# Altium footprint library IDC254P.PcbLib: 16 footprints
Each footprint in its own frame and in the unit in brackets; x right, y up, seen from the top. Pads: shape width x height; smd on the part's side, far side on the other; paste and mask are expansions set on the pad; w line width, h text height; cw(c..) or ccw(c..) is an arc to the next point about the centre after c.
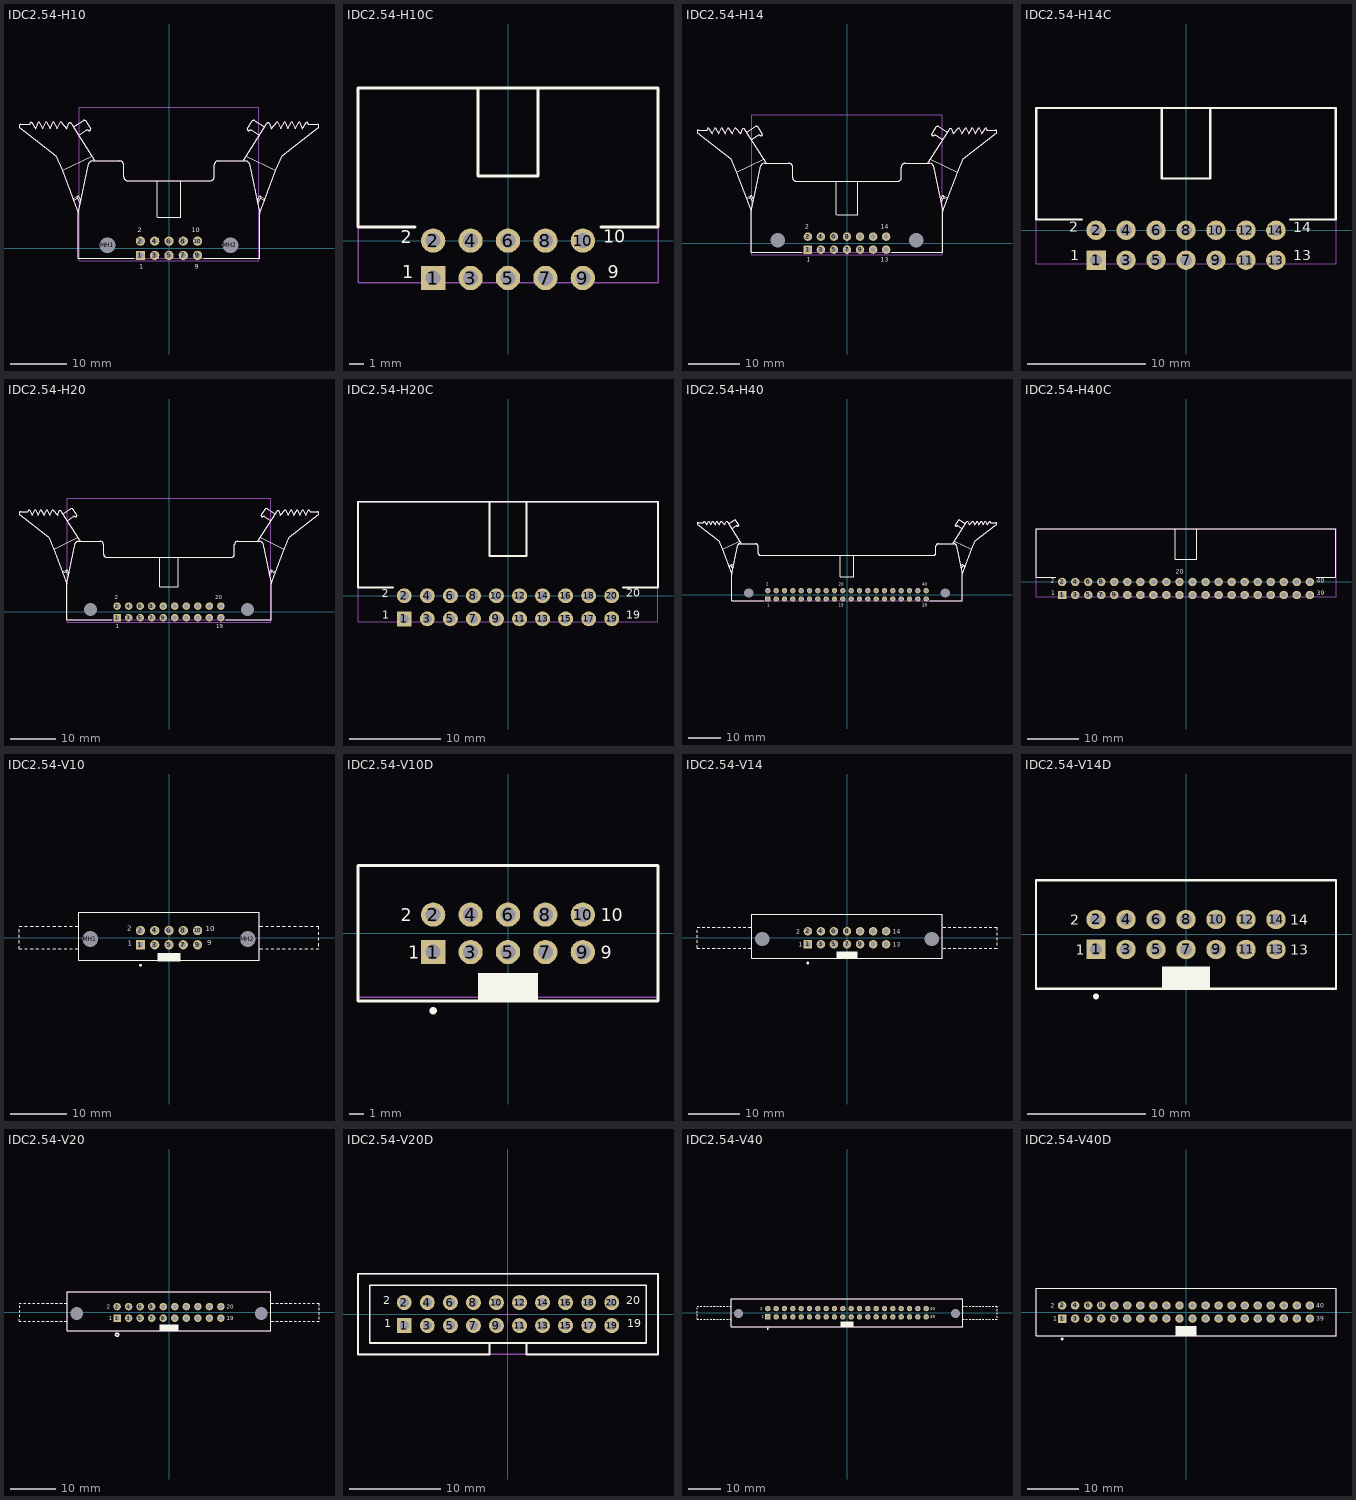
[diagram p0: the footprints below, top view; thin cyan lines are the x and y axes]

## IDC2.54-H10 [mm] "Connector; IDC, Thru-Hole; 10 Position; Right Angle; Pitch 2.54 mm; Body 32.30 x 8.5 x 25.75 mm (LxHxW), Locking levers"
height 8.5
pads (12):
  rect 1.65x1.65 hole 1: 1(-5.08,-1.27)
  round 1.65 hole 1: 2(-5.08,1.27) 3(-2.54,-1.27) 4(-2.54,1.27) 5(0,-1.27) 6(0,1.27) 7(2.54,-1.27) 8(2.54,1.27) 9(5.08,-1.27) 10(5.08,1.27)
  round 2.5 hole 2.8 unplated: MH1(-10.92,0.53) MH2(10.92,0.53)
Top Overlay:
  lines w0.2: -17.12,8.851 -16.155,9.3 ; -16.991,8.563 -16.32,8.877 ; -16.985,21.6 -15.262,22.725 cw(c-15.113,22.387) -14.847,22.644 -13.922,21.245 cw(c-14.242,21.225) -14.294,20.91 ccw(c-14.562,20.595) -14.697,20.985 ; -16.063,20.103 -14.7,20.991 ; -15.793,7.925 -16.32,8.877 ; -15.693,8.378 -16.155,9.3 ; -13.765,16.383 -18.989,13.84 ; -13.6,15.53 ccw(c-13.615,14.83) -14.26,15.102 -16.15,6.23 ; -13.54,15.53 -8.765,15.53 cw(c-8.765,14.83) -8.065,14.83 -8.065,12.73 ccw(c-7.365,12.73) -7.365,12.03 7.365,12.03 ccw(c7.365,12.73) 8.065,12.73 8.065,14.83 cw(c8.765,14.83) 8.765,15.53 13.54,15.53 ; -13.194,15.53 -17.328,22.058 ccw(c-17.651,21.956) -17.793,22.265 -18.2,21.301 -19.23,22.501 -19.86,21.301 -20.61,22.501 -21.16,21.301 -21.86,22.501 -22.48,21.301 -23.13,22.501 -23.73,21.301 -24.475,22.501 ; -6.305,-1.77 -16.15,-1.77 -16.15,6.23 ; -2.05,5.53 -2.05,12.03 ; -2.04,5.53 2.06,5.53 ; 2.05,5.534 2.05,12.03 ; 6.19,-1.77 16.15,-1.77 16.15,6.23 ; 13.194,15.53 17.328,22.058 cw(c17.651,21.956) 17.793,22.265 18.2,21.301 19.23,22.501 19.86,21.301 20.61,22.501 21.16,21.301 21.86,22.501 22.48,21.301 23.13,22.501 23.73,21.301 24.475,22.501 ; 13.6,15.53 cw(c13.615,14.83) 14.26,15.102 16.15,6.23 ; 13.765,16.383 18.989,13.84 ; 14.697,20.985 ccw(c14.562,20.595) 14.294,20.91 cw(c14.242,21.225) 13.922,21.245 14.847,22.644 cw(c15.113,22.387) 15.262,22.725 16.985,21.6 ; 14.7,20.991 16.063,20.103 ; 15.693,8.378 16.155,9.3 ; 15.793,7.925 16.32,8.877 ; 16.991,8.563 16.32,8.877 ; 17.12,8.851 16.155,9.3 ; -24.73,22.03 -24.475,22.501 ; -24.73,22.03 -24.475,22.501 ; -24.73,22.03 -26.341,22.03 ccw(c-26.341,21.69) -26.65,21.549 -20.115,16.455 -18.989,13.84 ; -18.989,13.84 -16.15,6.23 ; -16.32,8.877 -16.155,9.3 ; 16.15,6.23 18.989,13.84 ; 16.155,9.3 16.32,8.877 ; 18.989,13.84 20.115,16.455 26.65,21.549 ccw(c26.341,21.69) 26.341,22.03 24.73,22.03 ; 24.475,22.501 24.73,22.03 ; 24.475,22.501 24.73,22.03
  text "2" at -5.58,2.47 h1.5
  text "1" at -5.33,-3.97 h1.5
  text "10" at 4.08,2.47 h1.5
  text "9" at 4.58,-3.97 h1.5
Mechanical 13:
  lines w0.1: -16.985,21.6 -15.262,22.725 cw(c-15.113,22.387) -14.847,22.644 -13.922,21.245 cw(c-14.242,21.225) -14.294,20.91 ccw(c-14.562,20.595) -14.697,20.985 ; -16.063,20.103 -14.7,20.991 ; -13.6,15.53 ccw(c-13.615,14.83) -14.26,15.102 -16.15,6.23 ; -13.54,15.53 -8.765,15.53 cw(c-8.765,14.83) -8.065,14.83 -8.065,12.73 ccw(c-7.365,12.73) -7.365,12.03 7.365,12.03 ccw(c7.365,12.73) 8.065,12.73 8.065,14.83 cw(c8.765,14.83) 8.765,15.53 13.54,15.53 ; -13.194,15.53 -17.328,22.058 ccw(c-17.651,21.956) -17.793,22.265 -18.2,21.301 -19.23,22.501 -19.86,21.301 -20.61,22.501 -21.16,21.301 -21.86,22.501 -22.48,21.301 -23.13,22.501 -23.73,21.301 -24.475,22.501 ; 13.194,15.53 17.328,22.058 cw(c17.651,21.956) 17.793,22.265 18.2,21.301 19.23,22.501 19.86,21.301 20.61,22.501 21.16,21.301 21.86,22.501 22.48,21.301 23.13,22.501 23.73,21.301 24.475,22.501 ; 13.6,15.53 cw(c13.615,14.83) 14.26,15.102 16.15,6.23 ; 14.697,20.985 ccw(c14.562,20.595) 14.294,20.91 cw(c14.242,21.225) 13.922,21.245 14.847,22.644 cw(c15.113,22.387) 15.262,22.725 16.985,21.6 ; 14.7,20.991 16.063,20.103 ; -24.73,22.03 -24.475,22.501 ; -24.73,22.03 -26.341,22.03 ccw(c-26.341,21.69) -26.65,21.549 -20.115,16.455 -18.989,13.84 -16.15,6.23 ; -24.73,22.03 -24.475,22.501 ; -16.15,6.23 -16.15,-1.77 16.15,-1.77 16.15,6.23 ; 16.15,6.23 18.989,13.84 20.115,16.455 26.65,21.549 ccw(c26.341,21.69) 26.341,22.03 24.73,22.03 ; 24.475,22.501 24.73,22.03 ; 24.475,22.501 24.73,22.03 ; -16.002,-2.24 16.002,-2.24 16.002,25.056 -16.002,25.056 -16.002,-2.24
3D body: height 8.55, standoff -3.92, extent -16.002,-2.24 16.002,25.056

## IDC2.54-H10C [mm] "Connector; IDC, Low Profile Male Header, Thru-Hole; 10 Position; Right Angle; Pitch 2.54 mm; Body 20.32 x 8.9 x 9.2 mm (LxWxH)"
height 9.2
pads (10):
  rect 1.65x1.65 hole 1: 1(-5.08,-2.54)
  round 1.65 hole 1: 2(-5.08,0) 3(-2.54,-2.54) 4(-2.54,0) 5(0,-2.54) 6(0,0) 7(2.54,-2.54) 8(2.54,0) 9(5.08,-2.54) 10(5.08,0)
Top Overlay:
  lines w0.2: -6.305,0.91 -10.175,0.91 -10.175,10.36 10.175,10.36 10.175,0.91 6.305,0.91 ; -2.05,10.36 -2.05,4.39 2.05,4.39 2.05,10.36
  text "2" at -7.29,-0.483 h1.5
  text "1" at -7.188,-2.86 h1.5
  text "10" at 6.452,-0.457 h1.5
  text "9" at 6.756,-2.86 h1.5
Mechanical 13:
  lines w0.1: -10.175,10.36 -10.175,-2.86 10.175,-2.86 10.175,10.36 ; -10.16,10.36 10.16,10.36
3D body: height 8.93, standoff -2.98, extent -10.175,-2.86 10.175,10.36

## IDC2.54-H14 [mm] "Connector; IDC, Thru-Hole; 14 Position; Right Angle; Pitch 2.54 mm; Body 37.40 x 8.5 x 25.75 mm (LxHxW), Locking levers"
height 8.5
pads (16):
  rect 1.65x1.65 hole 1: 1(-7.62,-1.27)
  round 1.65 hole 1: 2(-7.62,1.27) 3(-5.08,-1.27) 4(-5.08,1.27) 5(-2.54,-1.27) 6(-2.54,1.27) 7(0,-1.27) 8(0,1.27) 9(2.54,-1.27) 10(2.54,1.27) 11(5.08,-1.27) 12(5.08,1.27) 13(7.62,-1.27) 14(7.62,1.27)
  round 2.5 hole 2.8 unplated: MH1(-13.46,0.53) MH2(13.46,0.53)
Top Overlay:
  lines w0.2: -19.67,8.851 -18.705,9.3 ; -19.541,8.563 -18.87,8.877 ; -19.535,21.6 -17.812,22.725 cw(c-17.663,22.387) -17.397,22.644 -16.472,21.245 cw(c-16.792,21.225) -16.844,20.91 ccw(c-17.112,20.595) -17.247,20.985 ; -18.613,20.103 -17.25,20.991 ; -18.343,7.925 -18.87,8.877 ; -18.243,8.378 -18.705,9.3 ; -16.315,16.383 -21.539,13.84 ; -15.744,15.53 -19.878,22.058 ccw(c-20.201,21.956) -20.343,22.265 -20.75,21.301 -21.78,22.501 -22.41,21.301 -23.16,22.501 -23.71,21.301 -24.41,22.501 -25.03,21.301 -25.68,22.501 -26.28,21.301 -27.025,22.501 ; -8.845,-1.77 -18.7,-1.77 -18.7,6.23 ; -2.05,5.53 -2.05,12.03 ; -2.04,5.53 2.06,5.53 ; 2.05,5.534 2.05,12.03 ; 8.73,-1.77 18.7,-1.77 18.7,6.23 ; 15.744,15.53 19.878,22.058 cw(c20.201,21.956) 20.343,22.265 20.75,21.301 21.78,22.501 22.41,21.301 23.16,22.501 23.71,21.301 24.41,22.501 25.03,21.301 25.68,22.501 26.28,21.301 27.025,22.501 ; 16.315,16.383 21.539,13.84 ; 17.247,20.985 ccw(c17.112,20.595) 16.844,20.91 cw(c16.792,21.225) 16.472,21.245 17.397,22.644 cw(c17.663,22.387) 17.812,22.725 19.535,21.6 ; 17.25,20.991 18.613,20.103 ; 18.243,8.378 18.705,9.3 ; 18.343,7.925 18.87,8.877 ; 19.541,8.563 18.87,8.877 ; 19.67,8.851 18.705,9.3 ; -27.28,22.03 -27.025,22.501 ; -27.28,22.03 -27.025,22.501 ; -27.28,22.03 -28.891,22.03 ccw(c-28.891,21.69) -29.2,21.549 -22.665,16.455 -21.539,13.84 ; -21.539,13.84 -18.7,6.23 ; -18.87,8.877 -18.705,9.3 ; -18.7,6.23 -16.81,15.102 cw(c-16.165,14.83) -16.15,15.53 -11.305,15.53 cw(c-11.305,14.83) -10.605,14.83 -10.605,12.73 ccw(c-9.905,12.73) -9.905,12.03 9.905,12.03 ccw(c9.905,12.73) 10.605,12.73 10.605,14.83 cw(c11.305,14.83) 11.305,15.53 16.15,15.53 cw(c16.165,14.83) 16.81,15.102 18.7,6.23 ; 18.7,6.23 21.539,13.84 ; 18.705,9.3 18.87,8.877 ; 21.539,13.84 22.665,16.455 29.2,21.549 ccw(c28.891,21.69) 28.891,22.03 27.28,22.03 ; 27.025,22.501 27.28,22.03 ; 27.025,22.501 27.28,22.03
  text "13" at 6.62,-3.97 h1.5
  text "14" at 6.62,2.47 h1.5
  text "1" at -7.87,-3.97 h1.5
  text "2" at -8.12,2.47 h1.5
Mechanical 13:
  lines w0.1: -19.535,21.6 -17.812,22.725 cw(c-17.663,22.387) -17.397,22.644 -16.472,21.245 cw(c-16.792,21.225) -16.844,20.91 ccw(c-17.112,20.595) -17.247,20.985 ; -18.613,20.103 -17.25,20.991 ; -15.744,15.53 -19.878,22.058 ccw(c-20.201,21.956) -20.343,22.265 -20.75,21.301 -21.78,22.501 -22.41,21.301 -23.16,22.501 -23.71,21.301 -24.41,22.501 -25.03,21.301 -25.68,22.501 -26.28,21.301 -27.025,22.501 ; 15.744,15.53 19.878,22.058 cw(c20.201,21.956) 20.343,22.265 20.75,21.301 21.78,22.501 22.41,21.301 23.16,22.501 23.71,21.301 24.41,22.501 25.03,21.301 25.68,22.501 26.28,21.301 27.025,22.501 ; 17.247,20.985 ccw(c17.112,20.595) 16.844,20.91 cw(c16.792,21.225) 16.472,21.245 17.397,22.644 cw(c17.663,22.387) 17.812,22.725 19.535,21.6 ; 17.25,20.991 18.613,20.103 ; -27.28,22.03 -27.025,22.501 ; -27.28,22.03 -27.025,22.501 ; -27.28,22.03 -28.891,22.03 ccw(c-28.891,21.69) -29.2,21.549 -22.665,16.455 -21.539,13.84 -18.7,6.23 ; -18.7,6.23 -18.7,-1.77 18.7,-1.77 18.7,6.23 ; -18.7,6.23 -16.81,15.102 cw(c-16.165,14.83) -16.15,15.53 -11.305,15.53 cw(c-11.305,14.83) -10.605,14.83 -10.605,12.73 ccw(c-9.905,12.73) -9.905,12.03 9.905,12.03 ccw(c9.905,12.73) 10.605,12.73 10.605,14.83 cw(c11.305,14.83) 11.305,15.53 16.15,15.53 cw(c16.165,14.83) 16.81,15.102 18.7,6.23 ; 18.7,6.23 21.539,13.84 22.665,16.455 29.2,21.549 ccw(c28.891,21.69) 28.891,22.03 27.28,22.03 ; 27.025,22.501 27.28,22.03 ; 27.025,22.501 27.28,22.03
  lines w0.2: -18.542,-2.24 18.542,-2.24 18.542,25.058 -18.542,25.058 -18.542,-2.24
3D body: height 8.55, standoff -2.78, extent -18.542,-2.24 18.542,25.058

## IDC2.54-H14C [mm] "Connector; IDC, Low Profile Male Header, Thru-Hole; 14 Position; Right Angle; Pitch 2.54 mm; Body 25.40 x 8.9 x 9.2 mm (LxWxH)"
height 9.2
pads (14):
  rect 1.65x1.65 hole 1: 1(-7.62,-2.54)
  round 1.65 hole 1: 2(-7.62,0) 3(-5.08,-2.54) 4(-5.08,0) 5(-2.54,-2.54) 6(-2.54,0) 7(0,-2.54) 8(0,0) 9(2.54,-2.54) 10(2.54,0) 11(5.08,-2.54) 12(5.08,0) 13(7.62,-2.54) 14(7.62,0)
Top Overlay:
  lines w0.2: -8.845,0.91 -12.7,0.91 -12.7,10.36 12.7,10.36 12.7,0.91 8.845,0.91 ; -2.05,10.36 -2.05,4.39 2.05,4.39 2.05,10.36
  text "13" at 9.093,-2.86 h1.5
  text "14" at 9.093,-0.483 h1.5
  text "1" at -9.804,-2.86 h1.5
  text "2" at -9.881,-0.432 h1.5
Mechanical 13:
  lines w0.1: -12.715,-2.86 -12.715,10.36 12.715,10.36 12.715,-2.86 -12.715,-2.86
3D body: height 8.93, standoff -2.98, extent -12.715,-2.86 12.715,10.36

## IDC2.54-H20 [mm] "Connector; IDC, Thru-Hole; 20 Position; Right Angle; Pitch 2.54 mm; Body 45.00 x 8.5 x 25.75 mm (LxHxW), Locking levers"
height 8.5
pads (22):
  rect 1.65x1.65 hole 1: 1(-11.43,-1.27)
  round 1.65 hole 1: 2(-11.43,1.27) 3(-8.89,-1.27) 4(-8.89,1.27) 5(-6.35,-1.27) 6(-6.35,1.27) 7(-3.81,-1.27) 8(-3.81,1.27) 9(-1.27,-1.27) 10(-1.27,1.27) 11(1.27,-1.27) 12(1.27,1.27) 13(3.81,-1.27) 14(3.81,1.27) 15(6.35,-1.27) 16(6.35,1.27) 17(8.89,-1.27) 18(8.89,1.27) 19(11.43,-1.27) 20(11.43,1.27)
  round 2.5 hole 2.8 unplated: MH1(-17.27,0.53) MH2(17.27,0.53)
Top Overlay:
  lines w0.2: -23.47,8.851 -22.505,9.3 ; -23.341,8.563 -22.67,8.877 ; -23.335,21.6 -21.612,22.725 cw(c-21.463,22.387) -21.197,22.644 -20.272,21.245 cw(c-20.592,21.225) -20.644,20.91 ccw(c-20.912,20.595) -21.047,20.985 ; -22.413,20.103 -21.05,20.991 ; -22.143,7.925 -22.67,8.877 ; -22.043,8.378 -22.505,9.3 ; -20.61,15.102 -22.5,6.23 ; -20.61,15.102 cw(c-19.965,14.83) -19.95,15.53 ; -20.115,16.383 -25.339,13.84 ; -19.94,15.53 -15.115,15.53 ; -19.544,15.53 -23.678,22.058 ccw(c-24.001,21.956) -24.143,22.265 -24.55,21.301 -25.58,22.501 -26.21,21.301 -26.96,22.501 -27.51,21.301 -28.21,22.501 -28.83,21.301 -29.48,22.501 -30.08,21.301 -30.825,22.501 ; -15.115,15.53 cw(c-15.115,14.83) -14.415,14.83 -14.415,12.73 ccw(c-13.715,12.73) -13.715,12.03 13.715,12.03 ccw(c13.715,12.73) 14.415,12.73 14.415,14.83 cw(c15.115,14.83) 15.115,15.53 19.94,15.53 ; -12.655,-1.77 -22.5,-1.77 -22.5,6.23 ; -2.05,5.53 -2.05,12.03 ; -2.04,5.53 2.06,5.53 ; 2.05,5.534 2.05,12.03 ; 12.54,-1.77 22.5,-1.77 22.5,6.23 ; 19.544,15.53 23.678,22.058 cw(c24.001,21.956) 24.143,22.265 24.55,21.301 25.58,22.501 26.21,21.301 26.96,22.501 27.51,21.301 28.21,22.501 28.83,21.301 29.48,22.501 30.08,21.301 30.825,22.501 ; 19.95,15.53 cw(c19.965,14.83) 20.61,15.102 22.5,6.23 ; 20.115,16.383 25.339,13.84 ; 21.047,20.985 ccw(c20.912,20.595) 20.644,20.91 cw(c20.592,21.225) 20.272,21.245 21.197,22.644 cw(c21.463,22.387) 21.612,22.725 23.335,21.6 ; 21.05,20.991 22.413,20.103 ; 22.043,8.378 22.505,9.3 ; 22.143,7.925 22.67,8.877 ; 23.341,8.563 22.67,8.877 ; 23.47,8.851 22.505,9.3 ; -31.08,22.03 -32.691,22.03 ccw(c-32.691,21.69) -33,21.549 -26.465,16.455 -25.339,13.84 ; -31.08,22.03 -30.825,22.501 ; -31.08,22.03 -30.825,22.501 ; -25.339,13.84 -22.5,6.23 ; -22.67,8.877 -22.505,9.3 ; 22.5,6.23 25.339,13.84 ; 22.505,9.3 22.67,8.877 ; 25.339,13.84 26.465,16.455 33,21.549 ccw(c32.691,21.69) 32.691,22.03 31.08,22.03 ; 30.825,22.501 31.08,22.03 ; 30.825,22.501 31.08,22.03
  text "2" at -11.93,2.47 h1.5
  text "1" at -11.68,-3.97 h1.5
  text "20" at 10.18,2.47 h1.5
  text "19" at 10.43,-3.97 h1.5
Mechanical 13:
  lines w0.1: -23.335,21.6 -21.612,22.725 cw(c-21.463,22.387) -21.197,22.644 -20.272,21.245 cw(c-20.592,21.225) -20.644,20.91 ccw(c-20.912,20.595) -21.047,20.985 ; -22.413,20.103 -21.05,20.991 ; -20.61,15.102 -22.5,6.23 ; -20.61,15.102 cw(c-19.965,14.83) -19.95,15.53 ; -19.94,15.53 -15.115,15.53 ; -19.544,15.53 -23.678,22.058 ccw(c-24.001,21.956) -24.143,22.265 -24.55,21.301 -25.58,22.501 -26.21,21.301 -26.96,22.501 -27.51,21.301 -28.21,22.501 -28.83,21.301 -29.48,22.501 -30.08,21.301 -30.825,22.501 ; -15.115,15.53 cw(c-15.115,14.83) -14.415,14.83 -14.415,12.73 ccw(c-13.715,12.73) -13.715,12.03 13.715,12.03 ccw(c13.715,12.73) 14.415,12.73 14.415,14.83 cw(c15.115,14.83) 15.115,15.53 19.94,15.53 ; 19.544,15.53 23.678,22.058 cw(c24.001,21.956) 24.143,22.265 24.55,21.301 25.58,22.501 26.21,21.301 26.96,22.501 27.51,21.301 28.21,22.501 28.83,21.301 29.48,22.501 30.08,21.301 30.825,22.501 ; 19.95,15.53 cw(c19.965,14.83) 20.61,15.102 22.5,6.23 ; 21.047,20.985 ccw(c20.912,20.595) 20.644,20.91 cw(c20.592,21.225) 20.272,21.245 21.197,22.644 cw(c21.463,22.387) 21.612,22.725 23.335,21.6 ; 21.05,20.991 22.413,20.103 ; -31.08,22.03 -30.825,22.501 ; -31.08,22.03 -32.691,22.03 ccw(c-32.691,21.69) -33,21.549 -26.465,16.455 -25.339,13.84 -22.5,6.23 ; -31.08,22.03 -30.825,22.501 ; -22.5,6.23 -22.5,-1.77 22.5,-1.77 22.5,6.23 ; 22.5,6.23 25.339,13.84 26.465,16.455 33,21.549 ccw(c32.691,21.69) 32.691,22.03 31.08,22.03 ; 30.825,22.501 31.08,22.03 ; 30.825,22.501 31.08,22.03
  lines w0.2: -22.352,-2.24 22.352,-2.24 22.352,25.056 -22.352,25.056 -22.352,-2.24
3D body: height 8.55, standoff -3.92, extent -22.352,-2.24 22.352,25.056

## IDC2.54-H20C [mm] "Connector; IDC, Low Profile Male Header, Thru-Hole; 20 Position; Right Angle; Pitch 2.54 mm; Body 33.02 x 8.9 x 9.2 mm (LxWxH)"
height 9.2
pads (20):
  rect 1.65x1.65 hole 1: 1(-11.43,-2.54)
  round 1.65 hole 1: 2(-11.43,0) 3(-8.89,-2.54) 4(-8.89,0) 5(-6.35,-2.54) 6(-6.35,0) 7(-3.81,-2.54) 8(-3.81,0) 9(-1.27,-2.54) 10(-1.27,0) 11(1.27,-2.54) 12(1.27,0) 13(3.81,-2.54) 14(3.81,0) 15(6.35,-2.54) 16(6.35,0) 17(8.89,-2.54) 18(8.89,0) 19(11.43,-2.54) 20(11.43,0)
Top Overlay:
  lines w0.2: -12.655,0.91 -16.51,0.91 -16.51,10.36 16.51,10.36 16.51,0.91 12.655,0.91 ; -2.05,10.36 -2.05,4.39 2.05,4.39 2.05,10.36
  text "19" at 13.03,-2.86 h1.5
  text "20" at 13.03,-0.457 h1.5
  text "1" at -13.843,-2.86 h1.5
  text "2" at -13.919,-0.483 h1.5
Mechanical 13:
  lines w0.1: -16.525,-2.86 16.525,-2.86 16.525,10.36 -16.525,10.36 -16.525,-2.86
3D body: height 8.93, standoff -2.98, extent -16.525,-2.86 16.525,10.36

## IDC2.54-H40 [mm] "Connector; IDC, Thru-Hole; 40 Position; Right Angle; Pitch 2.54 mm; Body 70.40 x 8.5 x 25.75 mm (LxHxW), Locking levers"
height 8.5
pads (42):
  rect 1.65x1.65 hole 1: 1(-24.13,-1.27)
  round 1.65 hole 1: 2(-24.13,1.27) 3(-21.59,-1.27) 4(-21.59,1.27) 5(-19.05,-1.27) 6(-19.05,1.27) 7(-16.51,-1.27) 8(-16.51,1.27) 9(-13.97,-1.27) 10(-13.97,1.27) 11(-11.43,-1.27) 12(-11.43,1.27) 13(-8.89,-1.27) 14(-8.89,1.27) 15(-6.35,-1.27) 16(-6.35,1.27) 17(-3.81,-1.27) 18(-3.81,1.27) 19(-1.27,-1.27) 20(-1.27,1.27) 21(1.27,-1.27) 22(1.27,1.27) 23(3.81,-1.27) 24(3.81,1.27) 25(6.35,-1.27) 26(6.35,1.27) 27(8.89,-1.27) 28(8.89,1.27) 29(11.43,-1.27) 30(11.43,1.27) 31(13.97,-1.27) 32(13.97,1.27) 33(16.51,-1.27) 34(16.51,1.27) 35(19.05,-1.27) 36(19.05,1.27) 37(21.59,-1.27) 38(21.59,1.27) 39(24.13,-1.27) 40(24.13,1.27)
  round 2.5 hole 2.8 unplated: MH1(-29.97,0.53) MH2(29.97,0.53)
Top Overlay:
  lines w0.2: -36.17,8.851 -35.205,9.3 ; -36.041,8.563 -35.37,8.877 ; -36.035,21.6 -34.312,22.725 cw(c-34.163,22.387) -33.897,22.644 -32.972,21.245 cw(c-33.292,21.225) -33.344,20.91 ccw(c-33.612,20.595) -33.747,20.985 ; -35.113,20.103 -33.75,20.991 ; -34.843,7.925 -35.37,8.877 ; -34.743,8.378 -35.205,9.3 ; -33.37,15.102 cw(c-32.725,14.83) -32.71,15.53 ; -32.815,16.383 -38.039,13.84 ; -32.65,15.53 ccw(c-32.665,14.83) -33.31,15.102 -35.2,6.23 ; -32.244,15.53 -36.378,22.058 ccw(c-36.701,21.956) -36.843,22.265 -37.25,21.301 -38.28,22.501 -38.91,21.301 -39.66,22.501 -40.21,21.301 -40.91,22.501 -41.53,21.301 -42.18,22.501 -42.78,21.301 -43.525,22.501 ; -25.355,-1.77 -35.2,-1.77 -35.2,6.23 ; -2.05,5.53 -2.05,12.03 ; -2.04,5.53 2.06,5.53 ; 2.05,5.534 2.05,12.03 ; 25.24,-1.77 35.2,-1.77 35.2,6.23 ; 32.244,15.53 36.378,22.058 cw(c36.701,21.956) 36.843,22.265 37.25,21.301 38.28,22.501 38.91,21.301 39.66,22.501 40.21,21.301 40.91,22.501 41.53,21.301 42.18,22.501 42.78,21.301 43.525,22.501 ; 32.65,15.53 cw(c32.665,14.83) 33.31,15.102 35.2,6.23 ; 32.66,15.53 27.8,15.53 ccw(c27.8,14.83) 27.1,14.83 27.1,12.73 cw(c26.4,12.73) 26.4,12.03 -26.4,12.03 cw(c-26.4,12.73) -27.1,12.73 -27.1,14.83 ccw(c-27.8,14.83) -27.8,15.53 ; 32.815,16.383 38.039,13.84 ; 33.747,20.985 ccw(c33.612,20.595) 33.344,20.91 cw(c33.292,21.225) 32.972,21.245 33.897,22.644 cw(c34.163,22.387) 34.312,22.725 36.035,21.6 ; 33.75,20.991 35.113,20.103 ; 34.743,8.378 35.205,9.3 ; 34.843,7.925 35.37,8.877 ; 36.041,8.563 35.37,8.877 ; 36.17,8.851 35.205,9.3 ; -43.78,22.03 -43.525,22.501 ; -43.78,22.03 -43.525,22.501 ; -43.78,22.03 -45.391,22.03 ccw(c-45.391,21.69) -45.7,21.549 -39.165,16.455 -38.039,13.84 ; -38.039,13.84 -35.2,6.23 ; -35.37,8.877 -35.205,9.3 ; -27.8,15.53 -32.66,15.53 -27.8,15.53 ; 35.2,6.23 38.039,13.84 ; 35.205,9.3 35.37,8.877 ; 38.039,13.84 39.165,16.455 45.7,21.549 ccw(c45.391,21.69) 45.391,22.03 43.78,22.03 ; 43.525,22.501 43.78,22.03 ; 43.525,22.501 43.78,22.03
  text "39" at 22.88,-3.97 h1.5
  text "40" at 22.88,2.47 h1.5
  text "1" at -24.38,-3.97 h1.5
  text "2" at -24.63,2.47 h1.5
  text "20" at -2.52,2.47 h1.5
  text "19" at -2.52,-3.97 h1.5
Mechanical 13:
  lines w0.1: -36.035,21.6 -34.312,22.725 cw(c-34.163,22.387) -33.897,22.644 -32.972,21.245 cw(c-33.292,21.225) -33.344,20.91 ccw(c-33.612,20.595) -33.747,20.985 ; -35.113,20.103 -33.75,20.991 ; -33.37,15.102 cw(c-32.725,14.83) -32.71,15.53 ; -32.65,15.53 ccw(c-32.665,14.83) -33.31,15.102 -35.2,6.23 ; -32.244,15.53 -36.378,22.058 ccw(c-36.701,21.956) -36.843,22.265 -37.25,21.301 -38.28,22.501 -38.91,21.301 -39.66,22.501 -40.21,21.301 -40.91,22.501 -41.53,21.301 -42.18,22.501 -42.78,21.301 -43.525,22.501 ; 32.244,15.53 36.378,22.058 cw(c36.701,21.956) 36.843,22.265 37.25,21.301 38.28,22.501 38.91,21.301 39.66,22.501 40.21,21.301 40.91,22.501 41.53,21.301 42.18,22.501 42.78,21.301 43.525,22.501 ; 32.65,15.53 cw(c32.665,14.83) 33.31,15.102 35.2,6.23 ; 32.66,15.53 27.8,15.53 ccw(c27.8,14.83) 27.1,14.83 27.1,12.73 cw(c26.4,12.73) 26.4,12.03 -26.4,12.03 cw(c-26.4,12.73) -27.1,12.73 -27.1,14.83 ccw(c-27.8,14.83) -27.8,15.53 ; 33.747,20.985 ccw(c33.612,20.595) 33.344,20.91 cw(c33.292,21.225) 32.972,21.245 33.897,22.644 cw(c34.163,22.387) 34.312,22.725 36.035,21.6 ; 33.75,20.991 35.113,20.103 ; -43.78,22.03 -43.525,22.501 ; -43.78,22.03 -43.525,22.501 ; -43.78,22.03 -45.391,22.03 ccw(c-45.391,21.69) -45.7,21.549 -39.165,16.455 -38.039,13.84 -35.2,6.23 ; -35.2,6.23 -35.2,-1.77 35.2,-1.77 35.2,6.23 ; -27.8,15.53 -32.66,15.53 -27.8,15.53 ; 35.2,6.23 38.039,13.84 39.165,16.455 45.7,21.549 ccw(c45.391,21.69) 45.391,22.03 43.78,22.03 ; 43.525,22.501 43.78,22.03 ; 43.525,22.501 43.78,22.03

## IDC2.54-H40C [mm] "Connector; IDC, Low Profile Male Header, Thru-Hole; 40 Position; Right Angle; Pitch 2.54 mm; Body 58.42 x 8.9 x 9.2 mm (LxWxH)"
height 9.2
pads (40):
  rect 1.65x1.65 hole 1: 1(-24.13,-2.54)
  round 1.65 hole 1: 2(-24.13,0) 3(-21.59,-2.54) 4(-21.59,0) 5(-19.05,-2.54) 6(-19.05,0) 7(-16.51,-2.54) 8(-16.51,0) 9(-13.97,-2.54) 10(-13.97,0) 11(-11.43,-2.54) 12(-11.43,0) 13(-8.89,-2.54) 14(-8.89,0) 15(-6.35,-2.54) 16(-6.35,0) 17(-3.81,-2.54) 18(-3.81,0) 19(-1.27,-2.54) 20(-1.27,0) 21(1.27,-2.54) 22(1.27,0) 23(3.81,-2.54) 24(3.81,0) 25(6.35,-2.54) 26(6.35,0) 27(8.89,-2.54) 28(8.89,0) 29(11.43,-2.54) 30(11.43,0) 31(13.97,-2.54) 32(13.97,0) 33(16.51,-2.54) 34(16.51,0) 35(19.05,-2.54) 36(19.05,0) 37(21.59,-2.54) 38(21.59,0) 39(24.13,-2.54) 40(24.13,0)
Top Overlay:
  lines w0.2: -25.355,0.91 -29.21,0.91 -29.21,10.36 29.21,10.36 29.21,0.91 25.355,0.91 ; -2.05,10.36 -2.05,4.39 2.05,4.39 2.05,10.36
  text "39" at 25.502,-2.86 h1.5
  text "40" at 25.502,-0.432 h1.5
  text "1" at -26.213,-2.86 h1.5
  text "2" at -26.34,-0.483 h1.5
  text "20" at -2.007,1.321 h1.5
Mechanical 13:
  lines w0.1: -29.225,-2.86 -29.225,10.36 29.225,10.36 29.225,-2.86 -29.225,-2.86
3D body: height 8.94, standoff -2.98, extent -29.225,-2.86 29.225,10.36

## IDC2.54-V10 [mm] "Connector; IDC, Thru-Hole; 10 Position; Vertical; Pitch 2.54 mm; Body 32.30 x 8.5 x 25.75 mm (LxWxH), Locking levers"
height 25.75
pads (12):
  rect 1.65x1.65 hole 1: 1(-5.08,-1.27)
  round 1.65 hole 1: 2(-5.08,1.27) 3(-2.54,-1.27) 4(-2.54,1.27) 5(0,-1.27) 6(0,1.27) 7(2.54,-1.27) 8(2.54,1.27) 9(5.08,-1.27) 10(5.08,1.27)
  round 2.5 hole 2.8 unplated: MH1(-13.97,-0.25) MH2(13.97,-0.25)
Top Overlay:
  circle w0.25: c-5.08,-4.9 r0.125
  rectangle: -2.05,-4.25 2.05,-2.7
  lines w0.2: -26.65,-1.5 -26.65,-2 -26.15,-2 ; -26.65,-1 -26.65,-0.5 ; -26.65,0 -26.65,0.5 ; -26.65,1 -26.65,1.5 ; -26.65,2 -26.15,2 ; -25.65,-2 -25.15,-2 ; -25.65,2 -25.15,2 ; -24.65,-2 -24.15,-2 ; -24.65,2 -24.15,2 ; -23.65,-2 -23.15,-2 ; -23.65,2 -23.15,2 ; -22.65,-2 -22.15,-2 ; -22.65,2 -22.15,2 ; -21.65,-2 -21.15,-2 ; -21.65,2 -21.15,2 ; -20.65,-2 -20.15,-2 ; -20.65,2 -20.15,2 ; -19.65,-2 -19.15,-2 ; -19.65,2 -19.15,2 ; -18.65,-2 -18.15,-2 ; -18.65,2 -18.15,2 ; -17.65,-2 -17.15,-2 ; -17.65,2 -17.15,2 ; -16.65,-2 -16.15,-2 ; -16.65,2 -16.15,2 ; 16.15,-2 16.65,-2 ; 16.15,2 16.65,2 ; 17.15,-2 17.65,-2 ; 17.15,2 17.65,2 ; 18.15,-2 18.65,-2 ; 18.15,2 18.65,2 ; 19.15,-2 19.65,-2 ; 19.15,2 19.65,2 ; 20.15,-2 20.65,-2 ; 20.15,2 20.65,2 ; 21.15,-2 21.65,-2 ; 21.15,2 21.65,2 ; 22.15,-2 22.65,-2 ; 22.15,2 22.65,2 ; 23.15,-2 23.65,-2 ; 23.15,2 23.65,2 ; 24.15,-2 24.65,-2 ; 24.15,2 24.65,2 ; 25.15,-2 25.65,-2 ; 25.15,2 25.65,2 ; 26.15,-2 26.65,-2 ; 26.15,2 26.65,2 26.65,1.5 ; 26.65,-1.5 26.65,-1 ; 26.65,-0.5 26.65,0 ; 26.65,0.5 26.65,1 ; -16.002,-3.99 -16.002,4.544 16.002,4.544 16.002,-3.99 -16.002,-3.99
  text "9" at 6.807,-1.702 h1.5
  text "10" at 6.528,0.813 h1.5
  text "1" at -7.315,-1.753 h1.5
  text "2" at -7.417,0.838 h1.5
Mechanical 13:
  lines w0.1: -16.002,-3.99 16.002,-3.99 16.002,4.544 -16.002,4.544 -16.002,-3.99
3D body: height 26.81, standoff -3.93, extent -16.002,-3.99 16.002,4.544

## IDC2.54-V10D [mm] "Connector; IDC, Low Profile Male Header, Thru-Hole; 10 Position; Vertical; Pitch 2.54 mm; Body 20.32 x 9.2 x 9.45 mm (LxWxH)"
height 9.45
pads (10):
  rect 1.65x1.65 hole 1: 1(-5.08,-1.27)
  round 1.65 hole 1: 2(-5.08,1.27) 3(-2.54,-1.27) 4(-2.54,1.27) 5(0,-1.27) 6(0,1.27) 7(2.54,-1.27) 8(2.54,1.27) 9(5.08,-1.27) 10(5.08,1.27)
Top Overlay:
  circle w0.25: c-5.08,-5.25 r0.125
  rectangle: -2.05,-4.6 2.05,-2.7
  lines w0.2: -10.16,-4.6 -10.16,4.6 10.16,4.6 10.16,-4.6 -10.16,-4.6
  text "2" at -7.28,0.52 h1.5
  text "1" at -6.78,-2.02 h1.5
  text "10" at 6.28,0.52 h1.5
  text "9" at 6.28,-2.02 h1.5
Mechanical 13:
  lines w0.1: -10.175,-4.35 10.175,-4.35 10.175,4.56 -10.175,4.56 -10.175,-4.35
3D body: height 9.11, standoff -2.99, extent -10.175,-4.35 10.175,4.56

## IDC2.54-V14 [mm] "Connector; IDC, Thru-Hole; 14 Position; Vertical; Pitch 2.54 mm; Body 37.40 x 8.5 x 25.75 mm (LxWxH), Locking levers"
height 25.75
pads (16):
  rect 1.65x1.65 hole 1: 1(-7.62,-1.27)
  round 1.65 hole 1: 2(-7.62,1.27) 3(-5.08,-1.27) 4(-5.08,1.27) 5(-2.54,-1.27) 6(-2.54,1.27) 7(0,-1.27) 8(0,1.27) 9(2.54,-1.27) 10(2.54,1.27) 11(5.08,-1.27) 12(5.08,1.27) 13(7.62,-1.27) 14(7.62,1.27)
  round 2.5 hole 2.8 unplated: MH1(-16.51,-0.25) MH2(16.51,-0.25)
Top Overlay:
  circle w0.25: c-7.62,-4.9 r0.125
  rectangle: -2.032,-3.99 2.068,-2.718
  lines w0.2: -29.2,-1 -29.2,-0.5 ; -29.2,0 -29.2,0.5 ; -29.2,1 -29.2,1.5 ; -29.2,2 -28.69,2 ; -29.19,-1.5 -29.2,-2 -28.69,-2 ; -28.19,-2 -27.69,-2 ; -28.19,2 -27.69,2 ; -27.19,-2 -26.69,-2 ; -27.19,2 -26.69,2 ; -26.19,-2 -25.69,-2 ; -26.19,2 -25.69,2 ; -25.19,-2 -24.69,-2 ; -25.19,2 -24.69,2 ; -24.19,-2 -23.69,-2 ; -24.19,2 -23.69,2 ; -23.19,-2 -22.69,-2 ; -23.19,2 -22.69,2 ; -22.19,-2 -21.69,-2 ; -22.19,2 -21.69,2 ; -21.19,-2 -20.69,-2 ; -21.19,2 -20.69,2 ; -20.19,-2 -19.69,-2 ; -20.19,2 -19.69,2 ; -19.19,-2 -18.7,-2 ; -19.19,2 -18.7,2 ; 18.7,-2 19.2,-2 ; 18.7,2 19.2,2 ; 19.7,-2 20.2,-2 ; 19.7,2 20.2,2 ; 20.7,-2 21.2,-2 ; 20.7,2 21.2,2 ; 21.7,-2 22.2,-2 ; 21.7,2 22.2,2 ; 22.7,-2 23.2,-2 ; 22.7,2 23.2,2 ; 23.7,-2 24.2,-2 ; 23.7,2 24.2,2 ; 24.7,-2 25.2,-2 ; 24.7,2 25.2,2 ; 25.7,-2 26.2,-2 ; 25.7,2 26.2,2 ; 26.7,-2 27.2,-2 ; 26.7,2 27.2,2 ; 27.7,-2 28.2,-2 ; 27.7,2 28.2,2 ; 28.7,-2 29.2,-2 ; 28.7,2 29.2,2 29.2,1.5 ; 29.2,-1.5 29.2,-1 ; 29.2,-0.5 29.2,0 ; 29.2,0.5 29.2,1 ; -18.542,-3.99 -18.542,4.544 18.542,4.544 18.542,-3.99 -18.542,-3.99
  text "13" at 8.9,-2.02 h1.5
  text "14" at 8.9,0.52 h1.5
  text "1" at -9.4,-2.02 h1.5
  text "2" at -9.9,0.52 h1.5
Mechanical 13:
  lines w0.1: -18.542,-3.99 18.542,-3.99 18.542,4.544 -18.542,4.544 -18.542,-3.99
3D body: height 26.81, standoff -3.93, extent -18.542,-3.99 18.542,4.544

## IDC2.54-V14D [mm] "Connector; IDC, Low Profile Male Header, Thru-Hole; 14 Position; Vertical; Pitch 2.54 mm; Body 25.40 x 9.2 x 9.45 mm (LxWxH)"
height 9.45
pads (14):
  rect 1.65x1.65 hole 1: 1(-7.62,-1.27)
  round 1.65 hole 1: 2(-7.62,1.27) 3(-5.08,-1.27) 4(-5.08,1.27) 5(-2.54,-1.27) 6(-2.54,1.27) 7(0,-1.27) 8(0,1.27) 9(2.54,-1.27) 10(2.54,1.27) 11(5.08,-1.27) 12(5.08,1.27) 13(7.62,-1.27) 14(7.62,1.27)
Top Overlay:
  circle w0.25: c-7.62,-5.25 r0.125
  rectangle: -2.05,-4.6 2.05,-2.7
  lines w0.2: -12.7,-4.6 12.7,-4.6 12.7,4.6 -12.7,4.6 -12.7,-4.6
  text "13" at 8.82,-2.02 h1.5
  text "14" at 8.82,0.52 h1.5
  text "1" at -9.32,-2.02 h1.5
  text "2" at -9.82,0.52 h1.5
3D body: height 9.11, standoff -2.99, extent -12.715,-4.36 12.715,4.55

## IDC2.54-V20 [mm] "Connector; IDC, Thru-Hole; 20 Position; Vertical; Pitch 2.54 mm; Body 45.00 x 8.5 x 25.75 mm (LxWxH), Locking levers"
height 25.75
pads (22):
  rect 1.65x1.65 hole 1: 1(-11.43,-1.27)
  round 1.65 hole 1: 2(-11.43,1.27) 3(-8.89,-1.27) 4(-8.89,1.27) 5(-6.35,-1.27) 6(-6.35,1.27) 7(-3.81,-1.27) 8(-3.81,1.27) 9(-1.27,-1.27) 10(-1.27,1.27) 11(1.27,-1.27) 12(1.27,1.27) 13(3.81,-1.27) 14(3.81,1.27) 15(6.35,-1.27) 16(6.35,1.27) 17(8.89,-1.27) 18(8.89,1.27) 19(11.43,-1.27) 20(11.43,1.27)
  round 2.5 hole 2.8 unplated: MH1(-20.32,-0.25) MH2(20.32,-0.25)
Top Overlay:
  circle w0.3: c-11.43,-4.9 r0.356
  rectangle: -2.05,-3.99 2.05,-2.7
  lines w0.2: -33.01,-0.5 -33,-1 ; -33.01,0.5 -33,0 ; -33.01,1.5 -33,1 ; -33,-1.5 -33,-2 -32.5,-2 ; -33,2 -32.5,2 ; -32,-2 -31.5,-2 ; -32,2 -31.5,2 ; -31,-2 -30.5,-2 ; -31,2 -30.5,2 ; -30,-2 -29.5,-2 ; -30,2 -29.5,2 ; -29,-2 -28.5,-2 ; -29,2 -28.5,2 ; -28,-2 -27.5,-2 ; -28,2 -27.5,2 ; -27,-2 -26.5,-2 ; -27,2 -26.5,2 ; -26,-2 -25.5,-2 ; -26,2 -25.5,2 ; -25,-2 -24.5,-2 ; -25,2 -24.5,2 ; -24,-2 -23.5,-2 ; -24,2 -23.5,2 ; -23,-2 -22.5,-2 ; -23,2 -22.5,2 ; 22.5,-2 23,-2 ; 22.5,2 23,2 ; 23.5,-2 24,-2 ; 23.5,2 24,2 ; 24.5,-2 25,-2 ; 24.5,2 25,2 ; 25.5,-2 26,-2 ; 25.5,2 26,2 ; 26.5,-2 27,-2 ; 26.5,2 27,2 ; 27.5,-2 28,-2 ; 27.5,2 28,2 ; 28.5,-2 29,-2 ; 28.5,2 29,2 ; 29.5,-2 30,-2 ; 29.5,2 30,2 ; 30.5,-2 31,-2 ; 30.5,2 31,2 ; 31.5,-2 32,-2 ; 31.5,2 32,2 ; 32.5,-2 33,-2 ; 32.5,2 33,2 33,1.5 ; 33,-1.5 33,-1 ; 33,-0.5 33,0 ; 33,0.5 33,1 ; -22.352,-3.99 -22.352,4.544 22.352,4.544 22.352,-3.99 -22.352,-3.99
  text "2" at -13.71,0.52 h1.5
  text "1" at -13.21,-2.02 h1.5
  text "20" at 12.71,0.52 h1.5
  text "19" at 12.71,-2.02 h1.5
Mechanical 13:
  lines w0.1: -22.352,-3.99 -22.352,4.544 22.352,4.544 22.352,-3.99 -22.352,-3.99
3D body: height 23.12, standoff -2.78, extent -22.352,-3.99 22.352,4.544

## IDC2.54-V20D [mm] "Connector; IDC, Low Profile Male Header, Thru-Hole; 20 Position; Vertical; Pitch 2.54 mm; Body 33.02 x 9.2 x 9.45 mm (LxWxH)"
height 9.45
pads (20):
  rect 1.65x1.65 hole 1: 1(-11.43,-1.27)
  round 1.65 hole 1: 2(-11.43,1.27) 3(-8.89,-1.27) 4(-8.89,1.27) 5(-6.35,-1.27) 6(-6.35,1.27) 7(-3.81,-1.27) 8(-3.81,1.27) 9(-1.27,-1.27) 10(-1.27,1.27) 11(1.27,-1.27) 12(1.27,1.27) 13(3.81,-1.27) 14(3.81,1.27) 15(6.35,-1.27) 16(6.35,1.27) 17(8.89,-1.27) 18(8.89,1.27) 19(11.43,-1.27) 20(11.43,1.27)
Top Overlay:
  lines w0.2: -2.032,-3.175 -2.032,-4.445 -16.51,-4.445 -16.51,4.445 16.51,4.445 16.51,-4.445 2.032,-4.445 2.032,-3.175 ; -15.24,-3.175 -15.24,3.175 15.24,3.175 15.24,-3.175 -15.24,-3.175
  text "20" at 13.03,0.737 h1.5
  text "19" at 13.133,-1.803 h1.5
  text "1" at -13.614,-1.803 h1.5
  text "2" at -13.757,0.737 h1.5
Mechanical 13:
  lines w0.15: -16.525,-4.445 16.525,-4.445 16.525,4.465 -16.525,4.465 -16.525,-4.445
Mechanical 15:
  lines w0.1: -1,0 1,0 ; 0,-1 0,1
3D body: height 9.25, standoff -2.85, extent -16.525,-4.445 16.525,4.465

## IDC2.54-V40 [mm] "Connector; IDC, Thru-Hole; 40 Position; Vertical; Pitch 2.54 mm; Body 70.40 x 8.5 x 25.75 mm (LxWxH), Locking levers"
height 25.75
pads (42):
  rect 1.65x1.65 hole 1: 1(-24.13,-1.27)
  round 1.65 hole 1: 2(-24.13,1.27) 3(-21.59,-1.27) 4(-21.59,1.27) 5(-19.05,-1.27) 6(-19.05,1.27) 7(-16.51,-1.27) 8(-16.51,1.27) 9(-13.97,-1.27) 10(-13.97,1.27) 11(-11.43,-1.27) 12(-11.43,1.27) 13(-8.89,-1.27) 14(-8.89,1.27) 15(-6.35,-1.27) 16(-6.35,1.27) 17(-3.81,-1.27) 18(-3.81,1.27) 19(-1.27,-1.27) 20(-1.27,1.27) 21(1.27,-1.27) 22(1.27,1.27) 23(3.81,-1.27) 24(3.81,1.27) 25(6.35,-1.27) 26(6.35,1.27) 27(8.89,-1.27) 28(8.89,1.27) 29(11.43,-1.27) 30(11.43,1.27) 31(13.97,-1.27) 32(13.97,1.27) 33(16.51,-1.27) 34(16.51,1.27) 35(19.05,-1.27) 36(19.05,1.27) 37(21.59,-1.27) 38(21.59,1.27) 39(24.13,-1.27) 40(24.13,1.27)
  round 2.5 hole 2.8 unplated: MH1(-33.02,-0.25) MH2(33.02,-0.25)
Top Overlay:
  circle w0.25: c-24.13,-4.9 r0.125
  rectangle: -2.05,-4.25 2.05,-2.7
  lines w0.2: -45.7,-1.5 -45.7,-2 -45.2,-2 ; -45.7,-1 -45.7,-0.5 ; -45.7,0 -45.7,0.5 ; -45.7,1 -45.7,1.5 ; -45.7,2 -45.2,2 ; -44.7,-2 -44.2,-2 ; -44.7,2 -44.2,2 ; -43.7,-2 -43.2,-2 ; -43.7,2 -43.2,2 ; -42.7,-2 -42.2,-2 ; -42.7,2 -42.2,2 ; -41.7,-2 -41.2,-2 ; -41.7,2 -41.2,2 ; -40.7,-2 -40.2,-2 ; -40.7,2 -40.2,2 ; -39.7,-2 -39.2,-2 ; -39.7,2 -39.2,2 ; -38.7,-2 -38.2,-2 ; -38.7,2 -38.2,2 ; -37.7,-2 -37.2,-2 ; -37.7,2 -37.2,2 ; -36.7,-2 -36.2,-2 ; -36.7,2 -36.2,2 ; -35.7,-2 -35.2,-2 ; -35.7,2 -35.2,2 ; 35.2,-2 35.7,-2 ; 35.2,2 35.7,2 ; 36.2,-2 36.7,-2 ; 36.2,2 36.7,2 ; 37.2,-2 37.7,-2 ; 37.2,2 37.7,2 ; 38.2,-2 38.7,-2 ; 38.2,2 38.7,2 ; 39.2,-2 39.7,-2 ; 39.2,2 39.7,2 ; 40.2,-2 40.7,-2 ; 40.2,2 40.7,2 ; 41.2,-2 41.7,-2 ; 41.2,2 41.7,2 ; 42.2,-2 42.7,-2 ; 42.2,2 42.7,2 ; 43.2,-2 43.7,-2 ; 43.2,2 43.7,2 ; 44.2,-2 44.7,-2 ; 44.2,2 44.7,2 ; 45.2,-2 45.7,-2 ; 45.2,2 45.7,2 45.7,1.5 ; 45.7,-1.5 45.7,-1 ; 45.7,-0.5 45.7,0 ; 45.7,0.5 45.7,1 ; -35.2,-4.25 35.2,-4.25 35.2,4.25 -35.2,4.25 -35.2,-4.25
  text "39" at 25.41,-2.02 h1.5
  text "40" at 25.41,0.52 h1.5
  text "1" at -25.91,-2.02 h1.5
  text "2" at -26.41,0.52 h1.5
Mechanical 13:
  lines w0.1: -35.2,-4.25 -35.2,4.25 35.2,4.25 35.2,-4.25 -35.2,-4.25

## IDC2.54-V40D [mm] "Connector; IDC, Low Profile Male Header, Thru-Hole; 40 Position; Vertical; Pitch 2.54 mm; Body 58.42 x 9.2 x 9.45 mm (LxWxH)"
height 9.45
pads (40):
  rect 1.65x1.65 hole 1: 1(-24.13,-1.27)
  round 1.65 hole 1: 2(-24.13,1.27) 3(-21.59,-1.27) 4(-21.59,1.27) 5(-19.05,-1.27) 6(-19.05,1.27) 7(-16.51,-1.27) 8(-16.51,1.27) 9(-13.97,-1.27) 10(-13.97,1.27) 11(-11.43,-1.27) 12(-11.43,1.27) 13(-8.89,-1.27) 14(-8.89,1.27) 15(-6.35,-1.27) 16(-6.35,1.27) 17(-3.81,-1.27) 18(-3.81,1.27) 19(-1.27,-1.27) 20(-1.27,1.27) 21(1.27,-1.27) 22(1.27,1.27) 23(3.81,-1.27) 24(3.81,1.27) 25(6.35,-1.27) 26(6.35,1.27) 27(8.89,-1.27) 28(8.89,1.27) 29(11.43,-1.27) 30(11.43,1.27) 31(13.97,-1.27) 32(13.97,1.27) 33(16.51,-1.27) 34(16.51,1.27) 35(19.05,-1.27) 36(19.05,1.27) 37(21.59,-1.27) 38(21.59,1.27) 39(24.13,-1.27) 40(24.13,1.27)
Top Overlay:
  circle w0.25: c-24.13,-5.25 r0.125
  rectangle: -2.05,-4.6 2.05,-2.7
  lines w0.2: -29.21,-4.6 29.21,-4.6 29.21,4.6 -29.21,4.6 -29.21,-4.6
  text "39" at 25.33,-2.02 h1.5
  text "40" at 25.33,0.52 h1.5
  text "1" at -25.83,-2.02 h1.5
  text "2" at -26.33,0.52 h1.5
Mechanical 13:
  lines w0.1: -29.21,-4.6 -29.21,4.6 29.21,4.6 29.21,-4.6 -29.21,-4.6
3D body: height 9.4, standoff -2.7, extent -29.225,-4.301 29.225,4.619